# Altium footprint library ICfootprint3.PcbLib: 77 footprints (part 2 of 5)
Each footprint in its own frame and in the unit in brackets; x right, y up, seen from the top. Pads: shape width x height; smd on the part's side, far side on the other; paste and mask are expansions set on the pad; w line width, h text height; cw(c..) or ccw(c..) is an arc to the next point about the centre after c.
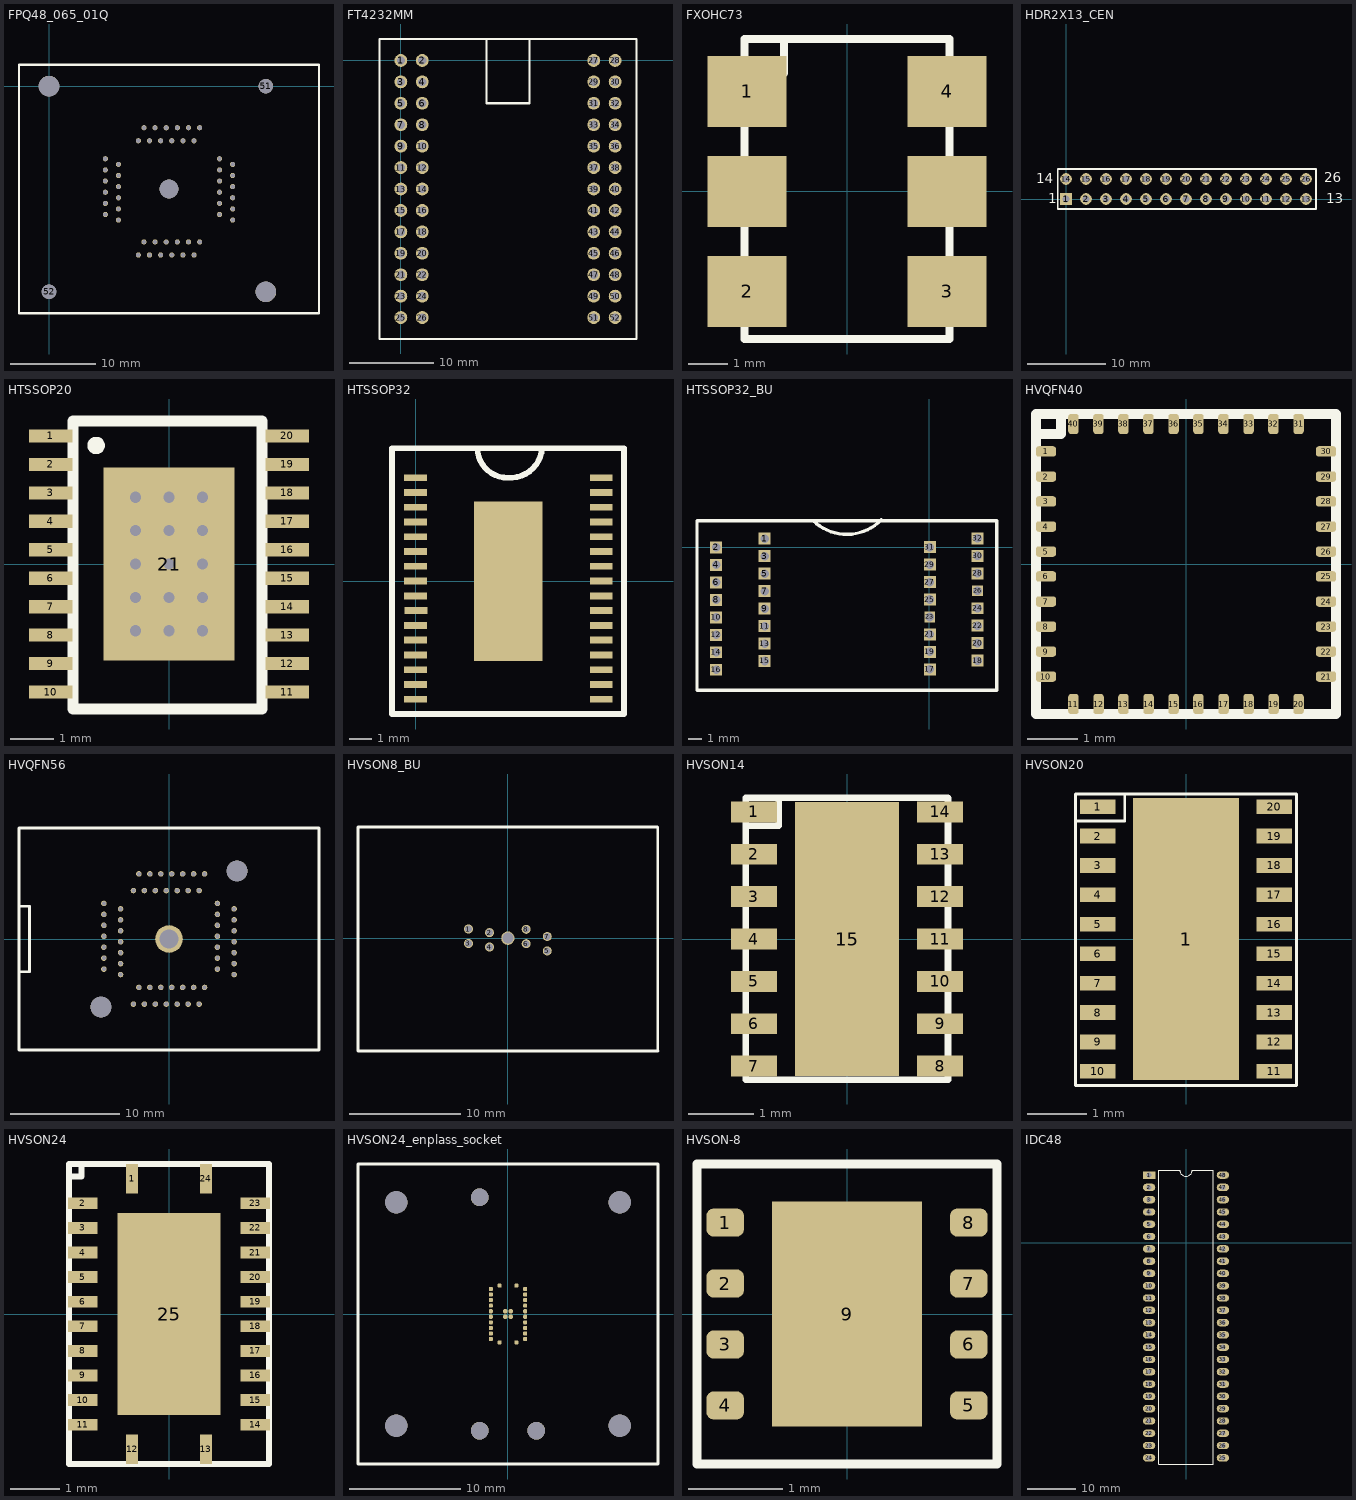
[diagram p1: the footprints below, top view; thin cyan lines are the x and y axes]

## FPQ48_065_01Q [mm] "QFP socket"
pads (53):
  round 0.6 hole 0.5: 1(6.575,-8.475) 2(8.1,-9.125) 3(6.575,-9.775) 4(8.1,-10.425) 5(6.575,-11.075) 6(8.1,-11.725) 7(6.575,-12.375) 8(8.1,-13.025) 9(6.575,-13.675) 10(8.1,-14.325) 11(6.575,-14.975) 12(8.1,-15.625) 13(10.425,-19.7) 14(11.075,-18.175) 15(11.725,-19.7) 16(12.375,-18.175) 17(13.025,-19.7) 18(13.675,-18.175) 19(14.325,-19.7) 20(14.975,-18.175) 21(15.625,-19.7) 22(16.275,-18.175) 23(16.925,-19.7) 24(17.575,-18.175) 25(21.425,-15.625) 26(19.9,-14.975) 27(21.425,-14.325) 28(19.9,-13.675) 29(21.425,-13.025) 30(19.9,-12.375) 31(21.425,-11.725) 32(19.9,-11.075) 33(21.425,-10.425) 34(19.9,-9.775) 35(21.425,-9.125) 36(19.9,-8.475) 37(17.575,-4.85) 38(16.925,-6.375) 39(16.275,-4.85) 40(15.625,-6.375) 41(14.975,-4.85) 42(14.325,-6.375) 43(13.675,-4.85) 44(13.025,-6.375) 45(12.375,-4.85) 46(11.725,-6.375) 47(11.075,-4.85) 48(10.425,-6.375)
  round 1.7 hole 1.7: 51(25.3,0) 52(0,-24)
  round 2.4 hole 2.4: ""(0,0) ""(25.3,-24)
  round 2.2 hole 2.2: ""(14,-12)
Top Overlay:
  lines w0.254: -3.5,-26.5 31.5,-26.5 31.5,-12 31.5,2.5 -3.5,2.5 -3.5,-12 -3.5,-26.5

## FT4232MM [mil] "FT4232 mini module/USB interface"
pads (52):
  round 60 hole 38: 1(0,0) 2(100,0) 3(0,-100) 4(100,-100) 5(0,-200) 6(100,-200) 7(0,-300) 8(100,-300) 9(0,-400) 10(100,-400) 11(0,-500) 12(100,-500) 13(0,-600) 14(100,-600) 15(0,-700) 16(100,-700) 17(0,-800) 18(100,-800) 19(0,-900) 20(100,-900) 21(0,-1000) 22(100,-1000) 23(0,-1100) 24(100,-1100) 25(0,-1200) 26(100,-1200) 27(900,0) 28(1000,0) 29(900,-100) 30(1000,-100) 31(900,-200) 32(1000,-200) 33(900,-300) 34(1000,-300) 35(900,-400) 36(1000,-400) 37(900,-500) 38(1000,-500) 39(900,-600) 40(1000,-600) 41(900,-700) 42(1000,-700) 43(900,-800) 44(1000,-800) 45(900,-900) 46(1000,-900) 47(900,-1000) 48(1000,-1000) 49(900,-1100) 50(1000,-1100) 51(900,-1200) 52(1000,-1200)
Top Overlay:
  lines w10: 400,100 400,-200 600,-200 600,100 ; -100,-1300 -100,100 1100,100 1100,-1300 -100,-1300

## FXOHC73 [mm]
pads (6):
  rect 2x1.8 smd mask+0: 1(-2.54,2.54) 2(-2.54,-2.54) 3(2.54,-2.54) 4(2.54,2.54) ""(-2.54,0) ""(2.54,0)
Top Overlay:
  lines w0.2: -2.6,3 -1.6,3 -1.6,3.87 ; -2.6,-3.75 2.6,-3.75 2.6,3.87 -2.6,3.87 -2.6,-3.75

## HDR2X13_CEN [mm] "Connector; Header; 13x2 Position"
pads (26):
  rect 1.5x1.5 hole 0.9: 1(0,0)
  round 1.5 hole 0.9: 2(2.54,0) 3(5.08,0) 4(7.62,0) 5(10.16,0) 6(12.7,0) 7(15.24,0) 8(17.78,0) 9(20.32,0) 10(22.86,0) 11(25.4,0) 12(27.94,0) 13(30.48,0) 14(0,2.54) 15(2.54,2.54) 16(5.08,2.54) 17(7.62,2.54) 18(10.16,2.54) 19(12.7,2.54) 20(15.24,2.54) 21(17.78,2.54) 22(20.32,2.54) 23(22.86,2.54) 24(25.4,2.54) 25(27.94,2.54) 26(30.48,2.54)
Top Overlay:
  lines w0.2: -1.058,-1.27 31.75,-1.27 31.75,3.81 -1.058,3.81 -1.058,-1.27
  text "1" at -2.286,-0.508 h1.27
  text "14" at -3.81,2.032 h1.27
  text "13" at 33.02,-0.508 h1.27
  text "26" at 32.766,2.159 h1.27

## HTSSOP20 [mm]
pads (21):
  rect 1x0.3 smd: 1(-2.7,2.925) 2(-2.7,2.275) 3(-2.7,1.625) 4(-2.7,0.975) 5(-2.7,0.325) 6(-2.7,-0.325) 7(-2.7,-0.975) 8(-2.7,-1.625) 9(-2.7,-2.275) 10(-2.7,-2.925) 11(2.7,-2.925) 12(2.7,-2.275) 13(2.7,-1.625) 14(2.7,-0.975) 15(2.7,-0.325) 16(2.7,0.325) 17(2.7,0.975) 18(2.7,1.625) 19(2.7,2.275) 20(2.7,2.925)
  rect 3x4.4 smd: 21(0,0)
via 0,1.524 diameter 0.381 hole 0.254
via 0.762,1.524 diameter 0.381 hole 0.254
via -0.762,1.524 diameter 0.381 hole 0.254
via -0.762,0.762 diameter 0.381 hole 0.254
via 0.762,0.762 diameter 0.381 hole 0.254
via 0,0.762 diameter 0.381 hole 0.254
via -0.762,0 diameter 0.381 hole 0.254
via 0.762,0 diameter 0.381 hole 0.254
via 0,0 diameter 0.381 hole 0.254
via -0.762,-0.762 diameter 0.381 hole 0.254
via 0.762,-0.762 diameter 0.381 hole 0.254
via 0,-0.762 diameter 0.381 hole 0.254
via -0.762,-1.524 diameter 0.381 hole 0.254
via 0.762,-1.524 diameter 0.381 hole 0.254
via 0,-1.524 diameter 0.381 hole 0.254
Top Overlay:
  circle w0.254: c-1.663,2.706 r0.072
  lines w0.254: -2.192,-3.312 2.126,-3.312 2.126,3.269 -2.192,3.269 -2.192,-3.312

## HTSSOP32 [mm] "HTSSOP32 with heatsink"
pads (34):
  rect 1x0.3 smd: 1(-0.023,4.55) 1(-0.023,4.55) 2(-0.023,3.9) 3(-0.023,3.25) 4(-0.023,2.6) 5(-0.023,1.95) 6(-0.023,1.3) 7(-0.023,0.65) 8(-0.023,0) 9(-0.023,-0.65) 10(0,-1.3) 11(-0.023,-1.95) 12(-0.023,-2.6) 13(-0.023,-3.25) 14(-0.023,-3.9) 15(-0.023,-4.55) 16(-0.023,-5.2) 17(8.15,-5.2) 18(8.15,-4.55) 19(8.15,-3.9) 20(8.15,-3.25) 21(8.15,-2.6) 22(8.15,-1.95) 23(8.15,-1.3) 24(8.15,-0.65) 25(8.15,0) 26(8.15,0.65) 27(8.15,1.3) 28(8.15,1.95) 29(8.15,2.6) 30(8.15,3.25) 31(8.15,3.9) 32(8.15,4.55)
  rect 3x7 smd: ""(4.058,-0.007)
Top Overlay:
  lines w0.254: 2.7,5.85 ccw(c4.025,5.875) 4.05,4.55 ccw(c4.15,5.95) 5.55,5.85 ; -1.05,-5.85 9.15,-5.85 9.15,5.85 -1.05,5.85 -1.05,5.05 -1.05,-5.85

## HTSSOP32_BU [mm]
pads (32):
  rect 0.889x0.889 hole 0.635: 1(-12.25,0.625) 2(-15.85,-0.025) 3(-12.25,-0.675) 4(-15.85,-1.325) 5(-12.25,-1.975) 6(-15.85,-2.625) 7(-12.25,-3.275) 8(-15.85,-3.925) 9(-12.25,-4.575) 10(-15.85,-5.225) 11(-12.25,-5.875) 12(-15.85,-6.525) 13(-12.25,-7.175) 14(-15.85,-7.825) 15(-12.25,-8.475) 16(-15.85,-9.125) 17(0.05,-9.1) 18(3.6,-8.45) 19(0.05,-7.8) 20(3.6,-7.15) 21(0.05,-6.5) 22(3.6,-5.85) 24(3.6,-4.55) 25(0.05,-3.9) 27(0.05,-2.6) 28(3.6,-1.95) 29(0.05,-1.3) 30(3.6,-0.65) 31(0.05,0) 32(3.6,0.65)
  rect 0.8x0.8 hole 0.635: 23(0.05,-5.2) 26(3.6,-3.25)
Top Overlay:
  lines w0.254: -8.636,1.975 ccw(c-6.124,4.544) -3.556,2.032 ; 5.025,1.95 5.025,-10.65 ; 5.05,-10.625 5.025,-10.65 ; 5.05,1.975 -17.275,1.975 -17.275,-10.65 5.025,-10.65

## HVQFN40 [mm]
pads (40):
  rrect50% 0.4x0.21 smd mask+0: 1(-2.8,2.25) 2(-2.8,1.75) 3(-2.8,1.25) 4(-2.8,0.75) 5(-2.8,0.25) 6(-2.8,-0.25) 7(-2.8,-0.75) 8(-2.8,-1.25) 9(-2.8,-1.75) 10(-2.8,-2.25) 21(2.8,-2.25) 22(2.8,-1.75) 23(2.8,-1.25) 24(2.8,-0.75) 25(2.8,-0.25) 26(2.8,0.25) 27(2.8,0.75) 28(2.8,1.25) 29(2.8,1.75) 30(2.8,2.25)
  rrect50% 0.21x0.4 smd mask+0: 11(-2.25,-2.8) 12(-1.75,-2.8) 13(-1.25,-2.8) 14(-0.75,-2.8) 15(-0.25,-2.8) 16(0.25,-2.8) 17(0.75,-2.8) 18(1.25,-2.8) 19(1.75,-2.8) 20(2.25,-2.8) 31(2.25,2.8) 32(1.75,2.8) 33(1.25,2.8) 34(0.75,2.8) 35(0.25,2.8) 36(-0.25,2.8) 37(-0.75,2.8) 38(-1.25,2.8) 39(-1.75,2.8) 40(-2.25,2.8)
Top Overlay:
  lines w0.2: -3,2.6 -2.5,2.6 -2.5,3 ; -3,-3 -3,3 3,3 3,-3 -3,-3

## HVQFN56 [mil] "POEMA socket"
pads (59):
  round 20 hole 15: 1(-234.45,127.95) 2(-174.41,108.27) 3(-234.45,88.58) 4(-174.41,68.9) 5(-234.45,49.21) 6(-174.41,29.53) 7(-234.45,9.84) 8(-174.41,-9.84) 9(-234.45,-29.53) 10(-174.41,-49.21) 11(-234.45,-68.9) 12(-174.41,-88.58) 13(-234.45,-108.27) 14(-174.41,-127.95) 15(-127.95,-234.45) 16(-108.27,-174.41) 17(-88.58,-234.45) 18(-68.9,-174.41) 19(-49.21,-234.45) 20(-29.53,-174.41) 21(-9.84,-234.45) 22(9.84,-174.41) 23(29.53,-234.45) 24(49.21,-174.41) 25(68.9,-234.45) 26(88.58,-174.41) 27(108.27,-234.45) 28(127.95,-174.41) 29(234.45,-127.95) 30(174.41,-108.27) 31(234.45,-88.58) 32(174.41,-68.9) 33(234.45,-49.21) 34(174.41,-29.53) 35(234.45,-9.84) 36(174.41,9.84) 37(234.45,29.53) 38(174.41,49.21) 39(234.45,68.9) 40(174.41,88.58) 41(234.45,108.27) 42(174.41,127.95) 43(127.95,234.45) 44(108.27,174.41) 45(88.58,234.45) 46(68.9,174.41) 47(49.21,234.45) 48(29.53,174.41) 49(9.84,234.45) 50(-9.84,174.41) 51(-29.53,234.45) 52(-49.21,174.41) 53(-68.9,234.45) 54(-88.58,174.41) 55(-108.27,234.45) 56(-127.95,174.41)
  round 75 hole 75 unplated: ""(-245.08,-245.08) ""(245.08,245.08)
  round 99 hole 70 mask+2: ""(0,0)
Top Overlay:
  lines w10: -539.96,-118.11 -501.97,-118.11 -501.97,118.11 -539.96,118.11 ; -539.96,-400 539.96,-400 539.96,400 -539.96,400 -539.96,-400

## HVSON8_BU [mil] "HVSON8 burn-in socket"
pads (9):
  round 32 hole 24: 1(-139.76,32.48) 2(-64.96,19.68) 3(-139.76,-18.7) 4(-64.96,-31.5) 5(139.76,-45.28) 6(64.96,-19.68) 7(139.76,5.91) 8(64.96,31.5)
  round 47.24 hole 39.37: ""(0,0)
Top Overlay:
  lines w10: -531.5,-399.61 -531.5,393.7 0,393.7 530.51,393.7 531.5,392.72 531.5,-398.62 532.48,-399.61 -531.5,-399.61

## HVSON14 [mm] "Lead less 14p with heatsink"
pads (15):
  rect 0.7x0.32 smd mask+0.05: 1(-1.427,1.95) 2(-1.427,1.3) 3(-1.427,0.65) 4(-1.427,0) 5(-1.427,-0.65) 6(-1.427,-1.3) 7(-1.427,-1.95) 8(1.427,-1.95) 9(1.427,-1.3) 10(1.427,-0.65) 11(1.427,0) 12(1.427,0.65) 13(1.427,1.3) 14(1.427,1.95)
  rect 1.6x4.2 smd mask+0.05: 15(0,0)
Top Overlay:
  lines w0.01: -1.549,2.163 -1.548,2.162 ; 1.548,-2.159 1.549,-2.158 ; 1.549,2.162 1.548,2.162 ; -1.55,-2.159 -1.55,-2.159
  lines w0.1: -1.55,2.164 -1.55,-2.159 1.548,-2.159 ; -1.548,2.162 1.548,2.162 ; -1.534,1.734 -1.045,1.734 ; -1.047,1.735 -1.047,2.165 ; 1.549,-2.158 1.549,2.162
3D body: height 0.85, standoff 0, extent -1.5,-2.032 1.5,2.032

## HVSON20 [mm] "Lead less 14p with heatsink"
pads (21):
  rect 0.6x0.25 smd mask+0.05: 1(-1.5,2.25) 2(-1.5,1.75) 3(-1.5,1.25) 4(-1.5,0.75) 5(-1.5,0.25) 6(-1.5,-0.25) 7(-1.5,-0.75) 8(-1.5,-1.25) 9(-1.5,-1.75) 10(-1.5,-2.25) 11(1.5,-2.25) 12(1.5,-1.75) 13(1.5,-1.25) 14(1.5,-0.75) 15(1.5,-0.25) 16(1.5,0.25) 17(1.5,0.75) 18(1.5,1.25) 19(1.5,1.75) 20(1.5,2.25)
  rect 1.8x4.8 smd mask+0.05: 1(0,0)
Top Overlay:
  lines w0.01: 1.348,-1.859 1.349,-1.858 ; -1.75,-1.859 -1.75,-1.859 ; -1.749,2.463 -1.748,2.462 ; 1.348,2.462 1.349,2.462
  lines w0.05: -1.88,2.007 -1.041,2.007 -1.041,2.438 ; -1.88,-2.489 1.88,-2.489 1.88,2.464 -1.702,2.464 -1.88,2.464 -1.88,-2.489
3D body: height 1, standoff 0, extent -1.118,-2.413 1.143,2.413

## HVSON24 [mm]
pads (25):
  rect 0.24x0.6 smd mask+0.025: 1(-0.75,2.75) 12(-0.75,-2.75) 13(0.75,-2.75) 24(0.75,2.75)
  rect 0.6x0.24 smd mask+0.025: 2(-1.75,2.25) 3(-1.75,1.75) 4(-1.75,1.25) 5(-1.75,0.75) 6(-1.75,0.25) 7(-1.75,-0.25) 8(-1.75,-0.75) 9(-1.75,-1.25) 10(-1.75,-1.75) 11(-1.75,-2.25) 14(1.75,-2.25) 15(1.75,-1.75) 16(1.75,-1.25) 17(1.75,-0.75) 18(1.75,-0.25) 19(1.75,0.25) 20(1.75,0.75) 21(1.75,1.25) 22(1.75,1.75) 23(1.75,2.25)
  rect 2.1x4.1 smd mask+0.025: 25(0,0)
Top Overlay:
  lines w0.127: -2.032,2.794 -1.778,2.794 -1.778,3.048 ; -2.032,-3.048 -2.032,3.048 2.032,3.048 2.032,-3.048 -2.032,-3.048

## HVSON24_enplass_socket [mm]
pads (35):
  rrect50% 0.365x0.365 smd mask+0.025: 1(-0.75,2.55) 2(-1.55,2.25) 3(-1.55,1.75) 4(-1.55,1.25) 5(-1.55,0.75) 6(-1.55,0.25) 7(-1.55,-0.25) 8(-1.55,-0.75) 9(-1.55,-1.25) 10(-1.55,-1.75) 11(-1.55,-2.25) 12(-0.75,-2.55) 13(0.75,-2.55) 14(1.55,-2.25) 15(1.55,-1.75) 16(1.55,-1.25) 17(1.55,-0.75) 18(1.55,-0.25) 19(1.55,0.25) 20(1.55,0.75) 21(1.55,1.25) 22(1.55,1.75) 23(1.55,2.25) 24(0.75,2.55) 25(-0.25,-0.25) 25(-0.25,0.25) 25(0.25,-0.25) 25(0.25,0.25)
  round 2 hole 2 mask+0: ""(-10.05,-10.05) ""(-10.05,10.05) ""(10.05,-10.05) ""(10.05,10.05)
  round 1.6 hole 1.6 mask+0: ""(-2.55,-10.5) ""(-2.55,10.5) ""(2.55,-10.5)
Top Overlay:
  lines w0.254: -13.5,-13.5 13.5,-13.5 13.5,13.5 -13.5,13.5 -13.5,-13.5
Bottom Overlay:
  circle w0.254: c-10.05,10.05 r2.348
  circle w0.254: c10.05,10.05 r2.247
  circle w0.254: c-10.05,-10.05 r2.348
  circle w0.254: c10.05,-10.05 r2.247
  lines w0.2: -12.065,-8.89 -5.08,-1.905 ; -12.065,8.89 -5.08,1.905 ; -8.89,12.065 -1.905,5.08 ; -8.572,-11.748 -1.905,-5.08 ; 1.905,-5.08 8.89,-12.065 ; 1.905,5.08 8.89,12.065 ; 5.08,-1.905 11.43,-8.255 ; 5.08,1.905 12.065,8.89 ; -5,-5 -5,5 5,5 5,-5 -5,-5

## HVSON-8 [mm] "Plastic thermal enhanced"
pads (9):
  rrect50% 0.4x0.3 smd mask+0.05: 1(-1.3,0.975) 2(-1.3,0.325) 3(-1.3,-0.325) 4(-1.3,-0.975) 5(1.3,-0.975) 6(1.3,-0.325) 7(1.3,0.325) 8(1.3,0.975)
  rect 1.6x2.4 smd mask+0.05: 9(0,0)
Top Overlay:
  lines w0.1: -1.6,-1.6 -1.6,1.6 1.6,1.6 1.6,-1.6 -1.6,-1.6

## IDC48 [mil]
pads (48):
  rect 100x60 hole 40: 1(-300,550)
  oval 100x60 hole 40: 2(-300,450) 3(-300,350) 4(-300,250) 5(-300,150) 6(-300,50) 7(-300,-50) 8(-300,-150) 9(-300,-250) 10(-300,-350) 11(-300,-450) 12(-300,-550) 13(-300,-650) 14(-300,-750) 15(-300,-850) 16(-300,-950) 17(-300,-1050) 18(-300,-1150) 19(-300,-1250) 20(-300,-1350) 21(-300,-1450) 22(-300,-1550) 23(-300,-1650) 24(-300,-1750) 25(300,-1750) 26(300,-1650) 27(300,-1550) 28(300,-1450) 29(300,-1350) 30(300,-1250) 31(300,-1150) 32(300,-1050) 33(300,-950) 34(300,-850) 35(300,-750) 36(300,-650) 37(300,-550) 38(300,-450) 39(300,-350) 40(300,-250) 41(300,-150) 42(300,-50) 43(300,50) 44(300,150) 45(300,250) 46(300,350) 47(300,450) 48(300,550)
Top Overlay:
  lines w10: -220,-1800 -220,590 -50,590 ccw(c0,590) 50,590 220,590 220,-1800 -220,-1800